# Altium integrated library Cypress PLD Delta39K.IntLib: 82 symbols (part 10 of 21)
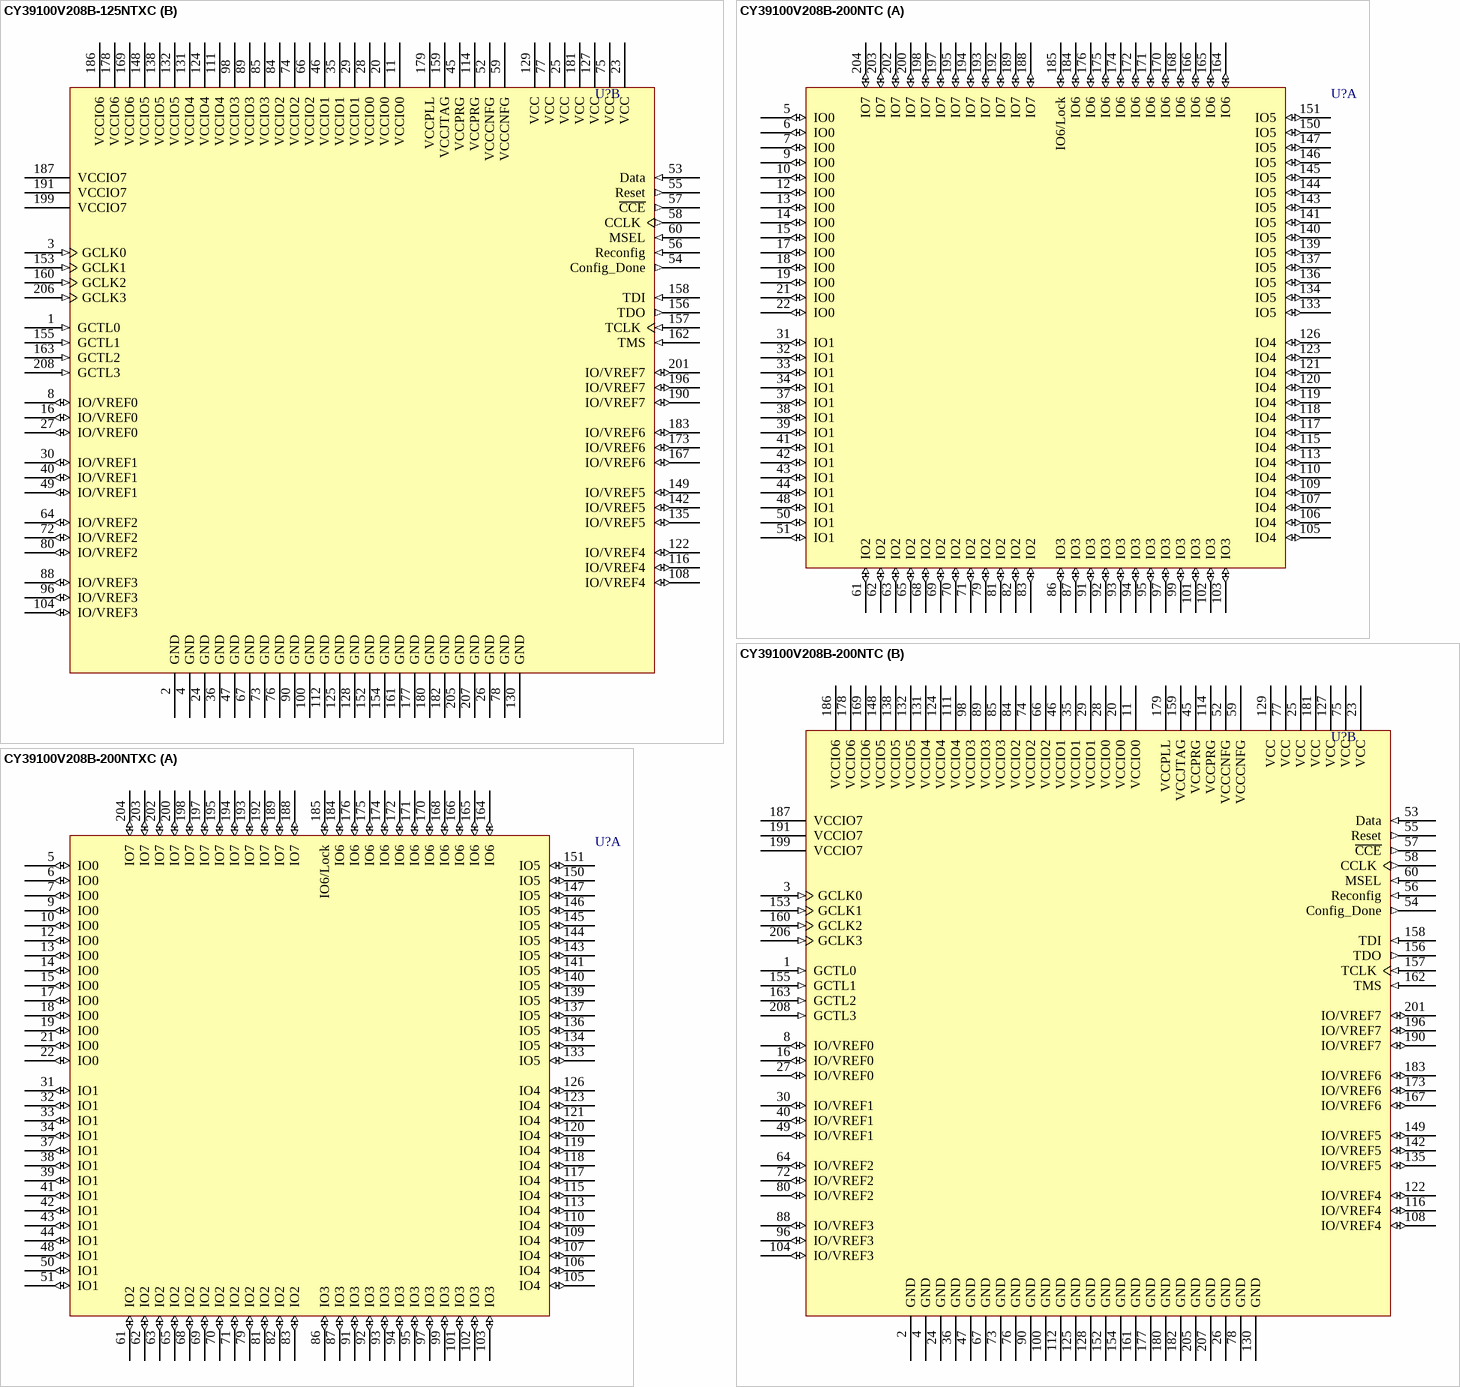
[diagram p87: symbols CY39100V208B-125NTXC to CY39100V208B-200NTXC]

## CY39100V208B-125NTXC
designator U?
Delta39K ISR CPLD, 3.3V/2.5V, 100K Gates, 125 MHz, 208-Lead EQFP, Commercial Grade, Pb-Free; Published: 6-Oct-2005; LatestRevisionDate: 13-Apr-2006; LatestRevisionNote: IPC-7351 Footprint Added.; DatasheetVersion: revI, Mar-2005; PackageVersion: Mar-2002; PackageReference: NT208; Publisher: Altium Limited; PackageDescription: 208-Pin Plastic Shrink Quad Flat Pack 0.5 mm Pitch; ComponentLink1Description: Manufacturer Link; ComponentLink1URL: http://www.cypress.com/; ComponentLink2Description: Datasheet; ComponentLink2URL: http://www.cypress.com/portal/server.pt/gateway/PTARGS_0_601270_1522_209_0_43/http%3B/sjapp20.mis.cypress.com%3B7001/publishedcontent/publish/design_resources/datasheets/contents/cy39030v_5.pdf
footprint NT208_N (Shrink QFP, 208-Leads, Body 28x28mm, Pitch 0.5mm, IPC Medium Density)
footprint NT208_L (Shrink QFP, 208-Leads, Body 28x28mm, Pitch 0.5mm, IPC High Density)
footprint NT208_M (Shrink QFP, 208-Leads, Body 28x28mm, Pitch 0.5mm, IPC Low Density)
3D model CY39100V208-NT208 (208-Pin Plastic Shrink Quad Flat Pack 0.5 mm Pitch)
part A pins: 5 IO0 (io) "IO for Bank 0", 6 IO0 (io) "IO for Bank 0", 7 IO0 (io) "IO for Bank 0", 9 IO0 (io) "IO for Bank 0", 10 IO0 (io) "IO for Bank 0", 12 IO0 (io) "IO for Bank 0", 13 IO0 (io) "IO for Bank 0", 14 IO0 (io) "IO for Bank 0", 15 IO0 (io) "IO for Bank 0", 17 IO0 (io) "IO for Bank 0", 18 IO0 (io) "IO for Bank 0", 19 IO0 (io) "IO for Bank 0", 21 IO0 (io) "IO for Bank 0", 22 IO0 (io) "IO for Bank 0", 31 IO1 (io) "IO for Bank 1", 32 IO1 (io) "IO for Bank 1", 33 IO1 (io) "IO for Bank 1", 34 IO1 (io) "IO for Bank 1", 37 IO1 (io) "IO for Bank 1", 38 IO1 (io) "IO for Bank 1", 39 IO1 (io) "IO for Bank 1", 41 IO1 (io) "IO for Bank 1", 42 IO1 (io) "IO for Bank 1", 43 IO1 (io) "IO for Bank 1", 44 IO1 (io) "IO for Bank 1", 48 IO1 (io) "IO for Bank 1", 50 IO1 (io) "IO for Bank 1", 51 IO1 (io) "IO for Bank 1", 61 IO2 (io) "IO for Bank 2", 62 IO2 (io) "IO for Bank 2", 63 IO2 (io) "IO for Bank 2", 65 IO2 (io) "IO for Bank 2", 68 IO2 (io) "IO for Bank 2", 69 IO2 (io) "IO for Bank 2", 70 IO2 (io) "IO for Bank 2", 71 IO2 (io) "IO for Bank 2", 79 IO2 (io) "IO for Bank 2", 81 IO2 (io) "IO for Bank 2", 82 IO2 (io) "IO for Bank 2", 83 IO2 (io) "IO for Bank 2", 86 IO3 (io) "IO for Bank 3", 87 IO3 (io) "IO for Bank 3", 91 IO3 (io) "IO for Bank 3", 92 IO3 (io) "IO for Bank 3", 93 IO3 (io) "IO for Bank 3", 94 IO3 (io) "IO for Bank 3", 95 IO3 (io) "IO for Bank 3", 97 IO3 (io) "IO for Bank 3", 99 IO3 (io) "IO for Bank 3", 101 IO3 (io) "IO for Bank 3", 102 IO3 (io) "IO for Bank 3", 103 IO3 (io) "IO for Bank 3", 105 IO4 (io) "IO for Bank 4", 106 IO4 (io) "IO for Bank 4", 107 IO4 (io) "IO for Bank 4", 109 IO4 (io) "IO for Bank 4", 110 IO4 (io) "IO for Bank 4", 113 IO4 (io) "IO for Bank 4", 115 IO4 (io) "IO for Bank 4", 117 IO4 (io) "IO for Bank 4", 118 IO4 (io) "IO for Bank 4", 119 IO4 (io) "IO for Bank 4", 120 IO4 (io) "IO for Bank 4", 121 IO4 (io) "IO for Bank 4", 123 IO4 (io) "IO for Bank 4", 126 IO4 (io) "IO for Bank 4", 133 IO5 (io) "IO for Bank 5", 134 IO5 (io) "IO for Bank 5", 136 IO5 (io) "IO for Bank 5", 137 IO5 (io) "IO for Bank 5", 139 IO5 (io) "IO for Bank 5", 140 IO5 (io) "IO for Bank 5", 141 IO5 (io) "IO for Bank 5", 143 IO5 (io) "IO for Bank 5", 144 IO5 (io) "IO for Bank 5", 145 IO5 (io) "IO for Bank 5", 146 IO5 (io) "IO for Bank 5", 147 IO5 (io) "IO for Bank 5", 150 IO5 (io) "IO for Bank 5", 151 IO5 (io) "IO for Bank 5", 164 IO6 (io) "IO for Bank 6", 165 IO6 (io) "IO for Bank 6", 166 IO6 (io) "IO for Bank 6", 168 IO6 (io) "IO for Bank 6", 170 IO6 (io) "IO for Bank 6", 171 IO6 (io) "IO for Bank 6", 172 IO6 (io) "IO for Bank 6", 174 IO6 (io) "IO for Bank 6", 175 IO6 (io) "IO for Bank 6", 176 IO6 (io) "IO for Bank 6", 184 IO6 (io) "IO for Bank 6", 185 IO6/Lock (io) "IO in Bank 6 or PLL lock output signal", 188 IO7 (io) "IO for Bank 7", 189 IO7 (io) "IO for Bank 7", 192 IO7 (io) "IO for Bank 7", 193 IO7 (io) "IO for Bank 7", 194 IO7 (io) "IO for Bank 7", 195 IO7 (io) "IO for Bank 7", 197 IO7 (io) "IO for Bank 7", 198 IO7 (io) "IO for Bank 7", 200 IO7 (io) "IO for Bank 7", 202 IO7 (io) "IO for Bank 7", 203 IO7 (io) "IO for Bank 7", 204 IO7 (io) "IO for Bank 7"
part B pins: 1 GCTL0 (in) "Global Control signal 0", 2 GND (power) "Ground", 3 GCLK0 (in) "Global Clock signal 0", 4 GND (power) "Ground", 8 IO/VREF0 (io) "IO or Reference Voltage for Bank 0", 11 VCCIO0 (power) "VCC for I/O bank 0", 16 IO/VREF0 (io) "IO or Reference Voltage for Bank 0", 20 VCCIO0 (power) "VCC for I/O bank 0", 23 VCC (power) "Operating Voltage", 24 GND (power) "Ground", 25 VCC (power) "Operating Voltage", 26 GND (power) "Ground", 27 IO/VREF0 (io) "IO or Reference Voltage for Bank 0", 28 VCCIO0 (power) "VCC for I/O bank 0", 29 VCCIO1 (power) "VCC for I/O bank 1", 30 IO/VREF1 (io) "IO or Reference Voltage for Bank 1", 35 VCCIO1 (power) "VCC for I/O bank 1", 36 GND (power) "Ground", 40 IO/VREF1 (io) "IO or Reference Voltage for Bank 1", 45 VCCPRG (power) "VCC for programming Self-Boot solution embedded boot PROM", 46 VCCIO1 (power) "VCC for I/O bank 1", 47 GND (power) "Ground", 49 IO/VREF1 (io) "IO or Reference Voltage for Bank 1", 52 VCCCNFG (power) "VCC for Configuration port", 53 Data (in) "Pin to receive configuration data from the external boot PROM", 54 Config_Done (out) "Flag indicating that configuration is complete", 55 Reset (out) "Reset signal to interface with the external boot PROM", 56 Reconfig (in) "Pin to start configuration of Delta39K", 57 ~{CCE} (out) "Chip select for the external boot PROM (active low)", 58 CCLK (out) "Configuration Clock for serial interface with the external boot PROM", 59 VCCCNFG (power) "VCC for Configuration port", 60 MSEL (in) "Mode Select Pin", 64 IO/VREF2 (io) "IO or Reference Voltage for Bank 2", 66 VCCIO2 (power) "VCC for I/O bank 2", 67 GND (power) "Ground", 72 IO/VREF2 (io) "IO or Reference Voltage for Bank 2", 73 GND (power) "Ground", 74 VCCIO2 (power) "VCC for I/O bank 2", 75 VCC (power) "Operating Voltage", 76 GND (power) "Ground", 77 VCC (power) "Operating Voltage", 78 GND (power) "Ground", 80 IO/VREF2 (io) "IO or Reference Voltage for Bank 2", 84 VCCIO2 (power) "VCC for I/O bank 2", 85 VCCIO3 (power) "VCC for I/O bank 3", 88 IO/VREF3 (io) "IO or Reference Voltage for Bank 3", 89 VCCIO3 (power) "VCC for I/O bank 3", 90 GND (power) "Ground", 96 IO/VREF3 (io) "IO or Reference Voltage for Bank 3", 98 VCCIO3 (power) "VCC for I/O bank 3", 100 GND (power) "Ground", 104 IO/VREF3 (io) "IO or Reference Voltage for Bank 3", 108 IO/VREF4 (io) "IO or Reference Voltage for Bank 4", 111 VCCIO4 (power) "VCC for I/O bank 4", 112 GND (power) "Ground", 114 VCCPRG (power) "VCC for programming Self-Boot solution embedded boot PROM", 116 IO/VREF4 (io) "IO or Reference Voltage for Bank 4", 122 IO/VREF4 (io) "IO or Reference Voltage for Bank 4", 124 VCCIO4 (power) "VCC for I/O bank 4", 125 GND (power) "Ground", 127 VCC (power) "Operating Voltage", 128 GND (power) "Ground", 129 VCC (power) "Operating Voltage", 130 GND (power) "Ground", 131 VCCIO4 (power) "VCC for I/O bank 4", 132 VCCIO5 (power) "VCC for I/O bank 5", 135 IO/VREF5 (io) "IO or Reference Voltage for Bank 5", 138 VCCIO5 (power) "VCC for I/O bank 5", 142 IO/VREF5 (io) "IO or Reference Voltage for Bank 5", 148 VCCIO5 (power) "VCC for I/O bank 5", 149 IO/VREF5 (io) "IO or Reference Voltage for Bank 5", 152 GND (power) "Ground", 153 GCLK1 (in) "Global Clock signal 1", 154 GND (power) "Ground", 155 GCTL1 (in) "Global Control signal 1", 156 TDO (out) "JTAG Test Data Out", 157 TCLK (in) "JTAG Test Clock", 158 TDI (in) "JTAG Test Data In", 159 VCCJTAG (power) "VCC for JTAG pins", 160 GCLK2 (in) "Global Clock signal 2", 161 GND (power) "Ground", 162 TMS (in) "JTAG Test Mode Select", 163 GCTL2 (in) "Global Control signal 2", 167 IO/VREF6 (io) "IO or Reference Voltage for Bank 6", 169 VCCIO6 (power) "VCC for I/O bank 6", 173 IO/VREF6 (io) "IO or Reference Voltage for Bank 6", 177 GND (power) "Ground", 178 VCCIO6 (power) "VCC for I/O bank 6", 179 VCCPLL (power) "VCC for PLL", 180 GND (power) "Ground", 181 VCC (power) "Operating Voltage", 182 GND (power) "Ground", 183 IO/VREF6 (io) "IO or Reference Voltage for Bank 6", 186 VCCIO6 (power) "VCC for I/O bank 6", 187 VCCIO7 (power) "VCC for I/O bank 7", 190 IO/VREF7 (io) "IO or Reference Voltage for Bank 7", 191 VCCIO7 (power) "VCC for I/O bank 7", 196 IO/VREF7 (io) "IO or Reference Voltage for Bank 7", 199 VCCIO7 (power) "VCC for I/O bank 7", 201 IO/VREF7 (io) "IO or Reference Voltage for Bank 7", 205 GND (power) "Ground", 206 GCLK3 (in) "Global Clock signal 3", 207 GND (power) "Ground", 208 GCTL3 (in) "Global Control signal 3"

## CY39100V208B-200NTC
designator U?
Delta39K ISR CPLD, 3.3V/2.5V, 100K Gates, 200 MHz, 208-Lead EQFP, Commercial Grade; Published: 6-Oct-2005; LatestRevisionDate: 13-Apr-2006; LatestRevisionNote: IPC-7351 Footprint Added.; DatasheetVersion: revI, Mar-2005; PackageVersion: Mar-2002; PackageReference: NT208; Publisher: Altium Limited; PackageDescription: 208-Pin Plastic Shrink Quad Flat Pack 0.5 mm Pitch; ComponentLink1Description: Manufacturer Link; ComponentLink1URL: http://www.cypress.com/; ComponentLink2Description: Datasheet; ComponentLink2URL: http://www.cypress.com/portal/server.pt/gateway/PTARGS_0_601270_1522_209_0_43/http%3B/sjapp20.mis.cypress.com%3B7001/publishedcontent/publish/design_resources/datasheets/contents/cy39030v_5.pdf
footprint NT208_N (Shrink QFP, 208-Leads, Body 28x28mm, Pitch 0.5mm, IPC Medium Density)
footprint NT208_L (Shrink QFP, 208-Leads, Body 28x28mm, Pitch 0.5mm, IPC High Density)
footprint NT208_M (Shrink QFP, 208-Leads, Body 28x28mm, Pitch 0.5mm, IPC Low Density)
3D model CY39100V208-NT208 (208-Pin Plastic Shrink Quad Flat Pack 0.5 mm Pitch)
part A pins: 5 IO0 (io) "IO for Bank 0", 6 IO0 (io) "IO for Bank 0", 7 IO0 (io) "IO for Bank 0", 9 IO0 (io) "IO for Bank 0", 10 IO0 (io) "IO for Bank 0", 12 IO0 (io) "IO for Bank 0", 13 IO0 (io) "IO for Bank 0", 14 IO0 (io) "IO for Bank 0", 15 IO0 (io) "IO for Bank 0", 17 IO0 (io) "IO for Bank 0", 18 IO0 (io) "IO for Bank 0", 19 IO0 (io) "IO for Bank 0", 21 IO0 (io) "IO for Bank 0", 22 IO0 (io) "IO for Bank 0", 31 IO1 (io) "IO for Bank 1", 32 IO1 (io) "IO for Bank 1", 33 IO1 (io) "IO for Bank 1", 34 IO1 (io) "IO for Bank 1", 37 IO1 (io) "IO for Bank 1", 38 IO1 (io) "IO for Bank 1", 39 IO1 (io) "IO for Bank 1", 41 IO1 (io) "IO for Bank 1", 42 IO1 (io) "IO for Bank 1", 43 IO1 (io) "IO for Bank 1", 44 IO1 (io) "IO for Bank 1", 48 IO1 (io) "IO for Bank 1", 50 IO1 (io) "IO for Bank 1", 51 IO1 (io) "IO for Bank 1", 61 IO2 (io) "IO for Bank 2", 62 IO2 (io) "IO for Bank 2", 63 IO2 (io) "IO for Bank 2", 65 IO2 (io) "IO for Bank 2", 68 IO2 (io) "IO for Bank 2", 69 IO2 (io) "IO for Bank 2", 70 IO2 (io) "IO for Bank 2", 71 IO2 (io) "IO for Bank 2", 79 IO2 (io) "IO for Bank 2", 81 IO2 (io) "IO for Bank 2", 82 IO2 (io) "IO for Bank 2", 83 IO2 (io) "IO for Bank 2", 86 IO3 (io) "IO for Bank 3", 87 IO3 (io) "IO for Bank 3", 91 IO3 (io) "IO for Bank 3", 92 IO3 (io) "IO for Bank 3", 93 IO3 (io) "IO for Bank 3", 94 IO3 (io) "IO for Bank 3", 95 IO3 (io) "IO for Bank 3", 97 IO3 (io) "IO for Bank 3", 99 IO3 (io) "IO for Bank 3", 101 IO3 (io) "IO for Bank 3", 102 IO3 (io) "IO for Bank 3", 103 IO3 (io) "IO for Bank 3", 105 IO4 (io) "IO for Bank 4", 106 IO4 (io) "IO for Bank 4", 107 IO4 (io) "IO for Bank 4", 109 IO4 (io) "IO for Bank 4", 110 IO4 (io) "IO for Bank 4", 113 IO4 (io) "IO for Bank 4", 115 IO4 (io) "IO for Bank 4", 117 IO4 (io) "IO for Bank 4", 118 IO4 (io) "IO for Bank 4", 119 IO4 (io) "IO for Bank 4", 120 IO4 (io) "IO for Bank 4", 121 IO4 (io) "IO for Bank 4", 123 IO4 (io) "IO for Bank 4", 126 IO4 (io) "IO for Bank 4", 133 IO5 (io) "IO for Bank 5", 134 IO5 (io) "IO for Bank 5", 136 IO5 (io) "IO for Bank 5", 137 IO5 (io) "IO for Bank 5", 139 IO5 (io) "IO for Bank 5", 140 IO5 (io) "IO for Bank 5", 141 IO5 (io) "IO for Bank 5", 143 IO5 (io) "IO for Bank 5", 144 IO5 (io) "IO for Bank 5", 145 IO5 (io) "IO for Bank 5", 146 IO5 (io) "IO for Bank 5", 147 IO5 (io) "IO for Bank 5", 150 IO5 (io) "IO for Bank 5", 151 IO5 (io) "IO for Bank 5", 164 IO6 (io) "IO for Bank 6", 165 IO6 (io) "IO for Bank 6", 166 IO6 (io) "IO for Bank 6", 168 IO6 (io) "IO for Bank 6", 170 IO6 (io) "IO for Bank 6", 171 IO6 (io) "IO for Bank 6", 172 IO6 (io) "IO for Bank 6", 174 IO6 (io) "IO for Bank 6", 175 IO6 (io) "IO for Bank 6", 176 IO6 (io) "IO for Bank 6", 184 IO6 (io) "IO for Bank 6", 185 IO6/Lock (io) "IO in Bank 6 or PLL lock output signal", 188 IO7 (io) "IO for Bank 7", 189 IO7 (io) "IO for Bank 7", 192 IO7 (io) "IO for Bank 7", 193 IO7 (io) "IO for Bank 7", 194 IO7 (io) "IO for Bank 7", 195 IO7 (io) "IO for Bank 7", 197 IO7 (io) "IO for Bank 7", 198 IO7 (io) "IO for Bank 7", 200 IO7 (io) "IO for Bank 7", 202 IO7 (io) "IO for Bank 7", 203 IO7 (io) "IO for Bank 7", 204 IO7 (io) "IO for Bank 7"
part B pins: 1 GCTL0 (in) "Global Control signal 0", 2 GND (power) "Ground", 3 GCLK0 (in) "Global Clock signal 0", 4 GND (power) "Ground", 8 IO/VREF0 (io) "IO or Reference Voltage for Bank 0", 11 VCCIO0 (power) "VCC for I/O bank 0", 16 IO/VREF0 (io) "IO or Reference Voltage for Bank 0", 20 VCCIO0 (power) "VCC for I/O bank 0", 23 VCC (power) "Operating Voltage", 24 GND (power) "Ground", 25 VCC (power) "Operating Voltage", 26 GND (power) "Ground", 27 IO/VREF0 (io) "IO or Reference Voltage for Bank 0", 28 VCCIO0 (power) "VCC for I/O bank 0", 29 VCCIO1 (power) "VCC for I/O bank 1", 30 IO/VREF1 (io) "IO or Reference Voltage for Bank 1", 35 VCCIO1 (power) "VCC for I/O bank 1", 36 GND (power) "Ground", 40 IO/VREF1 (io) "IO or Reference Voltage for Bank 1", 45 VCCPRG (power) "VCC for programming Self-Boot solution embedded boot PROM", 46 VCCIO1 (power) "VCC for I/O bank 1", 47 GND (power) "Ground", 49 IO/VREF1 (io) "IO or Reference Voltage for Bank 1", 52 VCCCNFG (power) "VCC for Configuration port", 53 Data (in) "Pin to receive configuration data from the external boot PROM", 54 Config_Done (out) "Flag indicating that configuration is complete", 55 Reset (out) "Reset signal to interface with the external boot PROM", 56 Reconfig (in) "Pin to start configuration of Delta39K", 57 ~{CCE} (out) "Chip select for the external boot PROM (active low)", 58 CCLK (out) "Configuration Clock for serial interface with the external boot PROM", 59 VCCCNFG (power) "VCC for Configuration port", 60 MSEL (in) "Mode Select Pin", 64 IO/VREF2 (io) "IO or Reference Voltage for Bank 2", 66 VCCIO2 (power) "VCC for I/O bank 2", 67 GND (power) "Ground", 72 IO/VREF2 (io) "IO or Reference Voltage for Bank 2", 73 GND (power) "Ground", 74 VCCIO2 (power) "VCC for I/O bank 2", 75 VCC (power) "Operating Voltage", 76 GND (power) "Ground", 77 VCC (power) "Operating Voltage", 78 GND (power) "Ground", 80 IO/VREF2 (io) "IO or Reference Voltage for Bank 2", 84 VCCIO2 (power) "VCC for I/O bank 2", 85 VCCIO3 (power) "VCC for I/O bank 3", 88 IO/VREF3 (io) "IO or Reference Voltage for Bank 3", 89 VCCIO3 (power) "VCC for I/O bank 3", 90 GND (power) "Ground", 96 IO/VREF3 (io) "IO or Reference Voltage for Bank 3", 98 VCCIO3 (power) "VCC for I/O bank 3", 100 GND (power) "Ground", 104 IO/VREF3 (io) "IO or Reference Voltage for Bank 3", 108 IO/VREF4 (io) "IO or Reference Voltage for Bank 4", 111 VCCIO4 (power) "VCC for I/O bank 4", 112 GND (power) "Ground", 114 VCCPRG (power) "VCC for programming Self-Boot solution embedded boot PROM", 116 IO/VREF4 (io) "IO or Reference Voltage for Bank 4", 122 IO/VREF4 (io) "IO or Reference Voltage for Bank 4", 124 VCCIO4 (power) "VCC for I/O bank 4", 125 GND (power) "Ground", 127 VCC (power) "Operating Voltage", 128 GND (power) "Ground", 129 VCC (power) "Operating Voltage", 130 GND (power) "Ground", 131 VCCIO4 (power) "VCC for I/O bank 4", 132 VCCIO5 (power) "VCC for I/O bank 5", 135 IO/VREF5 (io) "IO or Reference Voltage for Bank 5", 138 VCCIO5 (power) "VCC for I/O bank 5", 142 IO/VREF5 (io) "IO or Reference Voltage for Bank 5", 148 VCCIO5 (power) "VCC for I/O bank 5", 149 IO/VREF5 (io) "IO or Reference Voltage for Bank 5", 152 GND (power) "Ground", 153 GCLK1 (in) "Global Clock signal 1", 154 GND (power) "Ground", 155 GCTL1 (in) "Global Control signal 1", 156 TDO (out) "JTAG Test Data Out", 157 TCLK (in) "JTAG Test Clock", 158 TDI (in) "JTAG Test Data In", 159 VCCJTAG (power) "VCC for JTAG pins", 160 GCLK2 (in) "Global Clock signal 2", 161 GND (power) "Ground", 162 TMS (in) "JTAG Test Mode Select", 163 GCTL2 (in) "Global Control signal 2", 167 IO/VREF6 (io) "IO or Reference Voltage for Bank 6", 169 VCCIO6 (power) "VCC for I/O bank 6", 173 IO/VREF6 (io) "IO or Reference Voltage for Bank 6", 177 GND (power) "Ground", 178 VCCIO6 (power) "VCC for I/O bank 6", 179 VCCPLL (power) "VCC for PLL", 180 GND (power) "Ground", 181 VCC (power) "Operating Voltage", 182 GND (power) "Ground", 183 IO/VREF6 (io) "IO or Reference Voltage for Bank 6", 186 VCCIO6 (power) "VCC for I/O bank 6", 187 VCCIO7 (power) "VCC for I/O bank 7", 190 IO/VREF7 (io) "IO or Reference Voltage for Bank 7", 191 VCCIO7 (power) "VCC for I/O bank 7", 196 IO/VREF7 (io) "IO or Reference Voltage for Bank 7", 199 VCCIO7 (power) "VCC for I/O bank 7", 201 IO/VREF7 (io) "IO or Reference Voltage for Bank 7", 205 GND (power) "Ground", 206 GCLK3 (in) "Global Clock signal 3", 207 GND (power) "Ground", 208 GCTL3 (in) "Global Control signal 3"

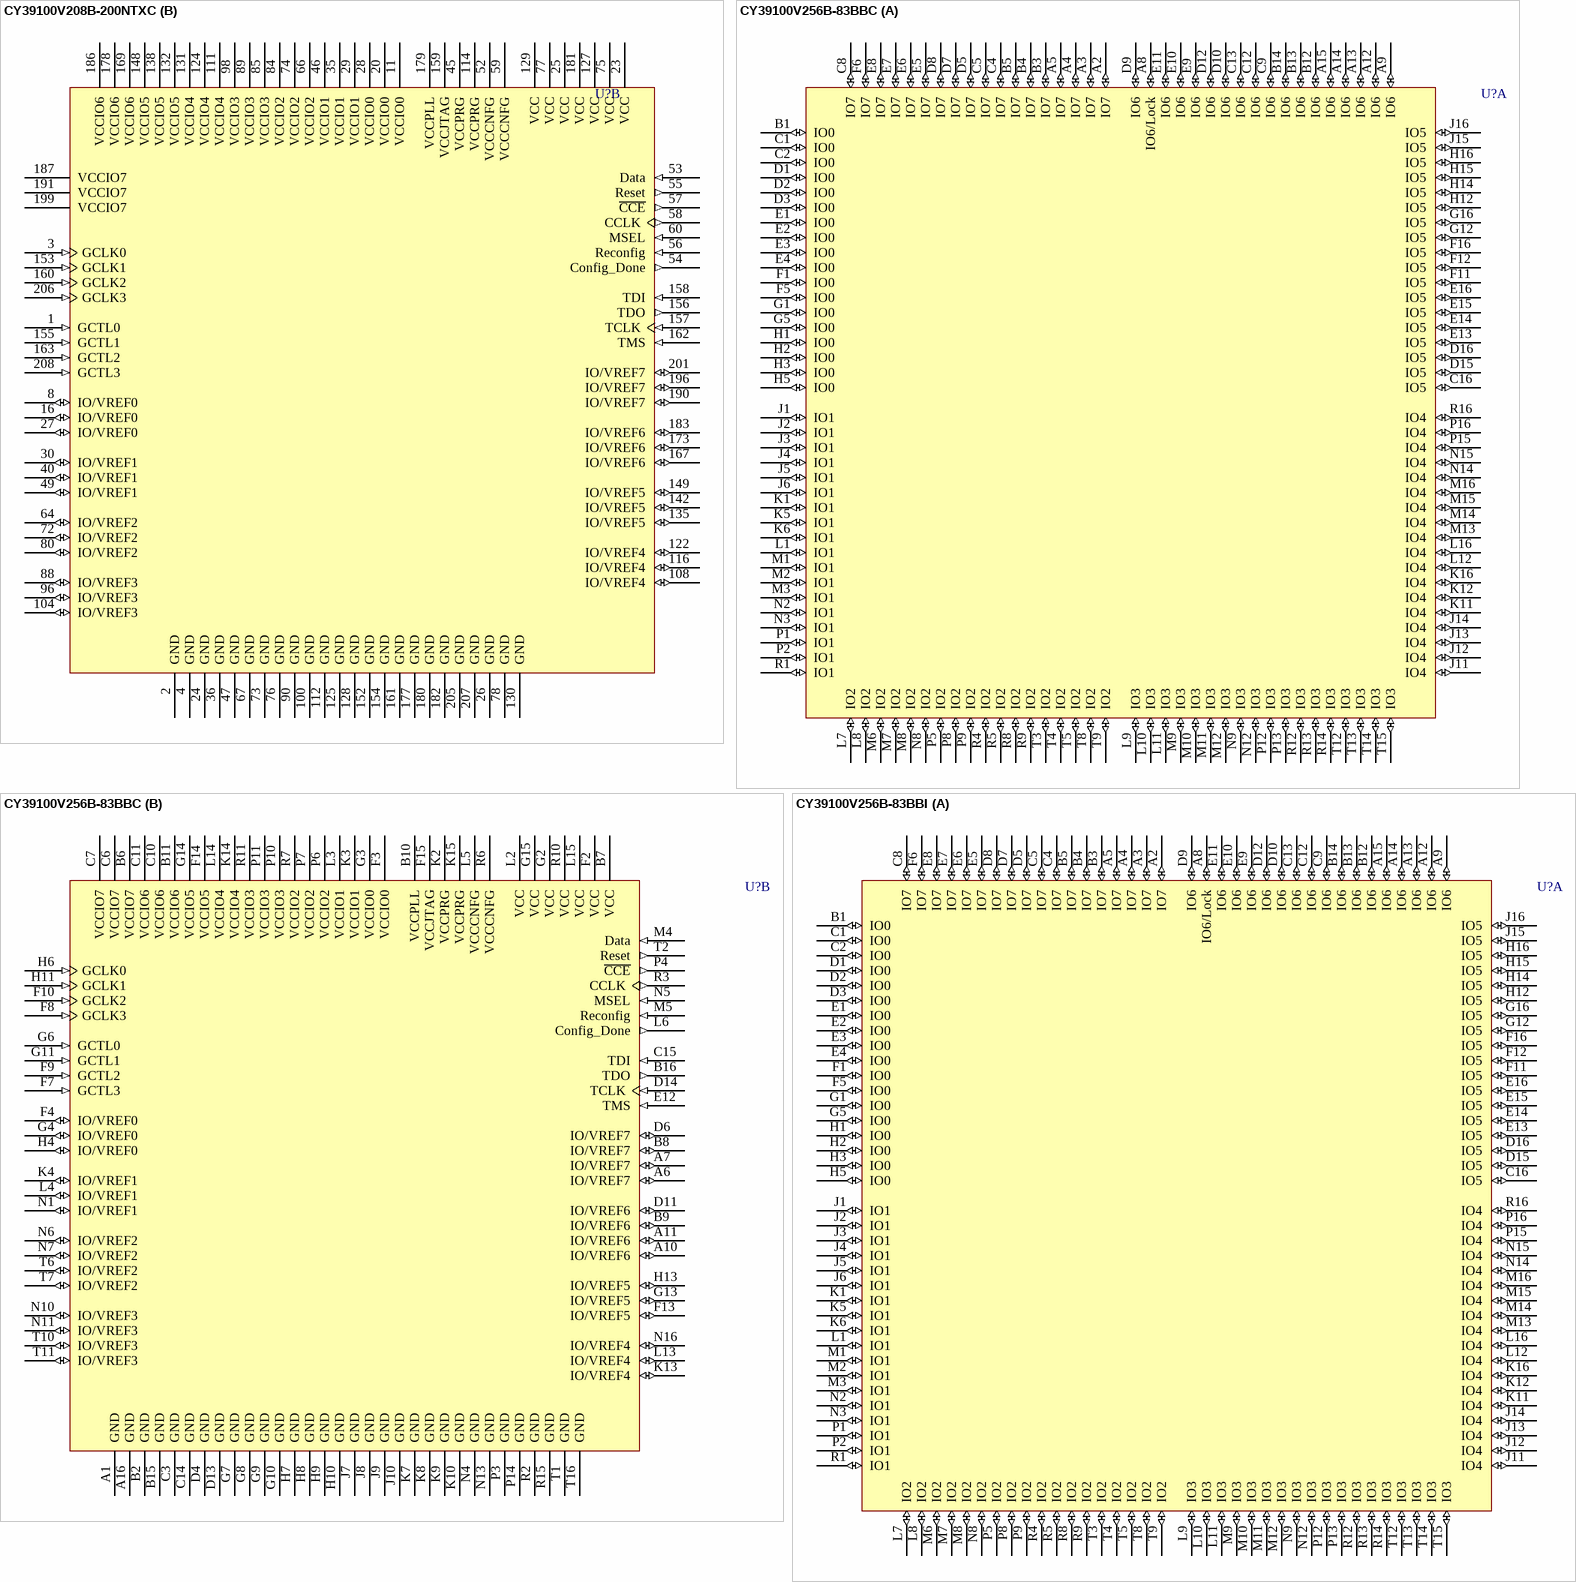
[diagram p29: symbols CY39100V208B-200NTXC to CY39100V256B-83BBI]

## CY39100V208B-200NTXC
designator U?
Delta39K ISR CPLD, 3.3V/2.5V, 100K Gates, 200 MHz, 208-Lead EQFP, Commercial Grade, Pb-Free; Published: 6-Oct-2005; LatestRevisionDate: 13-Apr-2006; LatestRevisionNote: IPC-7351 Footprint Added.; DatasheetVersion: revI, Mar-2005; PackageVersion: Mar-2002; PackageReference: NT208; Publisher: Altium Limited; PackageDescription: 208-Pin Plastic Shrink Quad Flat Pack 0.5 mm Pitch; ComponentLink1Description: Manufacturer Link; ComponentLink1URL: http://www.cypress.com/; ComponentLink2Description: Datasheet; ComponentLink2URL: http://www.cypress.com/portal/server.pt/gateway/PTARGS_0_601270_1522_209_0_43/http%3B/sjapp20.mis.cypress.com%3B7001/publishedcontent/publish/design_resources/datasheets/contents/cy39030v_5.pdf
footprint NT208_N (Shrink QFP, 208-Leads, Body 28x28mm, Pitch 0.5mm, IPC Medium Density)
footprint NT208_L (Shrink QFP, 208-Leads, Body 28x28mm, Pitch 0.5mm, IPC High Density)
footprint NT208_M (Shrink QFP, 208-Leads, Body 28x28mm, Pitch 0.5mm, IPC Low Density)
3D model CY39100V208-NT208 (208-Pin Plastic Shrink Quad Flat Pack 0.5 mm Pitch)
part A pins: 5 IO0 (io) "IO for Bank 0", 6 IO0 (io) "IO for Bank 0", 7 IO0 (io) "IO for Bank 0", 9 IO0 (io) "IO for Bank 0", 10 IO0 (io) "IO for Bank 0", 12 IO0 (io) "IO for Bank 0", 13 IO0 (io) "IO for Bank 0", 14 IO0 (io) "IO for Bank 0", 15 IO0 (io) "IO for Bank 0", 17 IO0 (io) "IO for Bank 0", 18 IO0 (io) "IO for Bank 0", 19 IO0 (io) "IO for Bank 0", 21 IO0 (io) "IO for Bank 0", 22 IO0 (io) "IO for Bank 0", 31 IO1 (io) "IO for Bank 1", 32 IO1 (io) "IO for Bank 1", 33 IO1 (io) "IO for Bank 1", 34 IO1 (io) "IO for Bank 1", 37 IO1 (io) "IO for Bank 1", 38 IO1 (io) "IO for Bank 1", 39 IO1 (io) "IO for Bank 1", 41 IO1 (io) "IO for Bank 1", 42 IO1 (io) "IO for Bank 1", 43 IO1 (io) "IO for Bank 1", 44 IO1 (io) "IO for Bank 1", 48 IO1 (io) "IO for Bank 1", 50 IO1 (io) "IO for Bank 1", 51 IO1 (io) "IO for Bank 1", 61 IO2 (io) "IO for Bank 2", 62 IO2 (io) "IO for Bank 2", 63 IO2 (io) "IO for Bank 2", 65 IO2 (io) "IO for Bank 2", 68 IO2 (io) "IO for Bank 2", 69 IO2 (io) "IO for Bank 2", 70 IO2 (io) "IO for Bank 2", 71 IO2 (io) "IO for Bank 2", 79 IO2 (io) "IO for Bank 2", 81 IO2 (io) "IO for Bank 2", 82 IO2 (io) "IO for Bank 2", 83 IO2 (io) "IO for Bank 2", 86 IO3 (io) "IO for Bank 3", 87 IO3 (io) "IO for Bank 3", 91 IO3 (io) "IO for Bank 3", 92 IO3 (io) "IO for Bank 3", 93 IO3 (io) "IO for Bank 3", 94 IO3 (io) "IO for Bank 3", 95 IO3 (io) "IO for Bank 3", 97 IO3 (io) "IO for Bank 3", 99 IO3 (io) "IO for Bank 3", 101 IO3 (io) "IO for Bank 3", 102 IO3 (io) "IO for Bank 3", 103 IO3 (io) "IO for Bank 3", 105 IO4 (io) "IO for Bank 4", 106 IO4 (io) "IO for Bank 4", 107 IO4 (io) "IO for Bank 4", 109 IO4 (io) "IO for Bank 4", 110 IO4 (io) "IO for Bank 4", 113 IO4 (io) "IO for Bank 4", 115 IO4 (io) "IO for Bank 4", 117 IO4 (io) "IO for Bank 4", 118 IO4 (io) "IO for Bank 4", 119 IO4 (io) "IO for Bank 4", 120 IO4 (io) "IO for Bank 4", 121 IO4 (io) "IO for Bank 4", 123 IO4 (io) "IO for Bank 4", 126 IO4 (io) "IO for Bank 4", 133 IO5 (io) "IO for Bank 5", 134 IO5 (io) "IO for Bank 5", 136 IO5 (io) "IO for Bank 5", 137 IO5 (io) "IO for Bank 5", 139 IO5 (io) "IO for Bank 5", 140 IO5 (io) "IO for Bank 5", 141 IO5 (io) "IO for Bank 5", 143 IO5 (io) "IO for Bank 5", 144 IO5 (io) "IO for Bank 5", 145 IO5 (io) "IO for Bank 5", 146 IO5 (io) "IO for Bank 5", 147 IO5 (io) "IO for Bank 5", 150 IO5 (io) "IO for Bank 5", 151 IO5 (io) "IO for Bank 5", 164 IO6 (io) "IO for Bank 6", 165 IO6 (io) "IO for Bank 6", 166 IO6 (io) "IO for Bank 6", 168 IO6 (io) "IO for Bank 6", 170 IO6 (io) "IO for Bank 6", 171 IO6 (io) "IO for Bank 6", 172 IO6 (io) "IO for Bank 6", 174 IO6 (io) "IO for Bank 6", 175 IO6 (io) "IO for Bank 6", 176 IO6 (io) "IO for Bank 6", 184 IO6 (io) "IO for Bank 6", 185 IO6/Lock (io) "IO in Bank 6 or PLL lock output signal", 188 IO7 (io) "IO for Bank 7", 189 IO7 (io) "IO for Bank 7", 192 IO7 (io) "IO for Bank 7", 193 IO7 (io) "IO for Bank 7", 194 IO7 (io) "IO for Bank 7", 195 IO7 (io) "IO for Bank 7", 197 IO7 (io) "IO for Bank 7", 198 IO7 (io) "IO for Bank 7", 200 IO7 (io) "IO for Bank 7", 202 IO7 (io) "IO for Bank 7", 203 IO7 (io) "IO for Bank 7", 204 IO7 (io) "IO for Bank 7"
part B pins: 1 GCTL0 (in) "Global Control signal 0", 2 GND (power) "Ground", 3 GCLK0 (in) "Global Clock signal 0", 4 GND (power) "Ground", 8 IO/VREF0 (io) "IO or Reference Voltage for Bank 0", 11 VCCIO0 (power) "VCC for I/O bank 0", 16 IO/VREF0 (io) "IO or Reference Voltage for Bank 0", 20 VCCIO0 (power) "VCC for I/O bank 0", 23 VCC (power) "Operating Voltage", 24 GND (power) "Ground", 25 VCC (power) "Operating Voltage", 26 GND (power) "Ground", 27 IO/VREF0 (io) "IO or Reference Voltage for Bank 0", 28 VCCIO0 (power) "VCC for I/O bank 0", 29 VCCIO1 (power) "VCC for I/O bank 1", 30 IO/VREF1 (io) "IO or Reference Voltage for Bank 1", 35 VCCIO1 (power) "VCC for I/O bank 1", 36 GND (power) "Ground", 40 IO/VREF1 (io) "IO or Reference Voltage for Bank 1", 45 VCCPRG (power) "VCC for programming Self-Boot solution embedded boot PROM", 46 VCCIO1 (power) "VCC for I/O bank 1", 47 GND (power) "Ground", 49 IO/VREF1 (io) "IO or Reference Voltage for Bank 1", 52 VCCCNFG (power) "VCC for Configuration port", 53 Data (in) "Pin to receive configuration data from the external boot PROM", 54 Config_Done (out) "Flag indicating that configuration is complete", 55 Reset (out) "Reset signal to interface with the external boot PROM", 56 Reconfig (in) "Pin to start configuration of Delta39K", 57 ~{CCE} (out) "Chip select for the external boot PROM (active low)", 58 CCLK (out) "Configuration Clock for serial interface with the external boot PROM", 59 VCCCNFG (power) "VCC for Configuration port", 60 MSEL (in) "Mode Select Pin", 64 IO/VREF2 (io) "IO or Reference Voltage for Bank 2", 66 VCCIO2 (power) "VCC for I/O bank 2", 67 GND (power) "Ground", 72 IO/VREF2 (io) "IO or Reference Voltage for Bank 2", 73 GND (power) "Ground", 74 VCCIO2 (power) "VCC for I/O bank 2", 75 VCC (power) "Operating Voltage", 76 GND (power) "Ground", 77 VCC (power) "Operating Voltage", 78 GND (power) "Ground", 80 IO/VREF2 (io) "IO or Reference Voltage for Bank 2", 84 VCCIO2 (power) "VCC for I/O bank 2", 85 VCCIO3 (power) "VCC for I/O bank 3", 88 IO/VREF3 (io) "IO or Reference Voltage for Bank 3", 89 VCCIO3 (power) "VCC for I/O bank 3", 90 GND (power) "Ground", 96 IO/VREF3 (io) "IO or Reference Voltage for Bank 3", 98 VCCIO3 (power) "VCC for I/O bank 3", 100 GND (power) "Ground", 104 IO/VREF3 (io) "IO or Reference Voltage for Bank 3", 108 IO/VREF4 (io) "IO or Reference Voltage for Bank 4", 111 VCCIO4 (power) "VCC for I/O bank 4", 112 GND (power) "Ground", 114 VCCPRG (power) "VCC for programming Self-Boot solution embedded boot PROM", 116 IO/VREF4 (io) "IO or Reference Voltage for Bank 4", 122 IO/VREF4 (io) "IO or Reference Voltage for Bank 4", 124 VCCIO4 (power) "VCC for I/O bank 4", 125 GND (power) "Ground", 127 VCC (power) "Operating Voltage", 128 GND (power) "Ground", 129 VCC (power) "Operating Voltage", 130 GND (power) "Ground", 131 VCCIO4 (power) "VCC for I/O bank 4", 132 VCCIO5 (power) "VCC for I/O bank 5", 135 IO/VREF5 (io) "IO or Reference Voltage for Bank 5", 138 VCCIO5 (power) "VCC for I/O bank 5", 142 IO/VREF5 (io) "IO or Reference Voltage for Bank 5", 148 VCCIO5 (power) "VCC for I/O bank 5", 149 IO/VREF5 (io) "IO or Reference Voltage for Bank 5", 152 GND (power) "Ground", 153 GCLK1 (in) "Global Clock signal 1", 154 GND (power) "Ground", 155 GCTL1 (in) "Global Control signal 1", 156 TDO (out) "JTAG Test Data Out", 157 TCLK (in) "JTAG Test Clock", 158 TDI (in) "JTAG Test Data In", 159 VCCJTAG (power) "VCC for JTAG pins", 160 GCLK2 (in) "Global Clock signal 2", 161 GND (power) "Ground", 162 TMS (in) "JTAG Test Mode Select", 163 GCTL2 (in) "Global Control signal 2", 167 IO/VREF6 (io) "IO or Reference Voltage for Bank 6", 169 VCCIO6 (power) "VCC for I/O bank 6", 173 IO/VREF6 (io) "IO or Reference Voltage for Bank 6", 177 GND (power) "Ground", 178 VCCIO6 (power) "VCC for I/O bank 6", 179 VCCPLL (power) "VCC for PLL", 180 GND (power) "Ground", 181 VCC (power) "Operating Voltage", 182 GND (power) "Ground", 183 IO/VREF6 (io) "IO or Reference Voltage for Bank 6", 186 VCCIO6 (power) "VCC for I/O bank 6", 187 VCCIO7 (power) "VCC for I/O bank 7", 190 IO/VREF7 (io) "IO or Reference Voltage for Bank 7", 191 VCCIO7 (power) "VCC for I/O bank 7", 196 IO/VREF7 (io) "IO or Reference Voltage for Bank 7", 199 VCCIO7 (power) "VCC for I/O bank 7", 201 IO/VREF7 (io) "IO or Reference Voltage for Bank 7", 205 GND (power) "Ground", 206 GCLK3 (in) "Global Clock signal 3", 207 GND (power) "Ground", 208 GCTL3 (in) "Global Control signal 3"

## CY39100V256B-83BBC
designator U?
Delta39K ISR CPLD, 3.3V/2.5V, 100K Gates, 83 MHz, 256-Ball FBGA, Commercial Grade; Published: 6-Oct-2005; LatestRevisionDate: 13-Apr-2006; LatestRevisionNote: IPC-7351 Footprint Added.; DatasheetVersion: revI, Mar-2005; PackageVersion: revF, Oct-2003; PackageReference: BB256; Publisher: Altium Limited; PackageDescription: 256-Ball Fine Pitch Ball Grid Array 1 mm Pitch (37K & 39K CPLD Devices); Code_JEDEC: MO-192; ComponentLink1Description: Manufacturer Link; ComponentLink1URL: http://www.cypress.com/; ComponentLink2Description: Datasheet; ComponentLink2URL: http://www.cypress.com/portal/server.pt/gateway/PTARGS_0_601270_1522_209_0_43/http%3B/sjapp20.mis.cypress.com%3B7001/publishedcontent/publish/design_resources/datasheets/contents/cy39030v_5.pdf
footprint BB256 (BGA, 256-Leads, Body 17x17mm, Pitch 1mm)
3D model CY39100V256-BB256 (256-Ball Fine Pitch Ball Grid Array 1 mm Pitch (37K & 39K CPLD Devices))
part A pins: A2 IO7 (io), A3 IO7 (io), A4 IO7 (io), A5 IO7 (io), A8 IO6/Lock (io), A9 IO6 (io), A12 IO6 (io), A13 IO6 (io), A14 IO6 (io), A15 IO6 (io), B1 IO0 (io), B3 IO7 (io), B4 IO7 (io), B5 IO7 (io), B12 IO6 (io), B13 IO6 (io), B14 IO6 (io), C1 IO0 (io), C2 IO0 (io), C4 IO7 (io), C5 IO7 (io), C8 IO7 (io), C9 IO6 (io), C12 IO6 (io), C13 IO6 (io), C16 IO5 (io), D1 IO0 (io), D2 IO0 (io), D3 IO0 (io), D5 IO7 (io), D7 IO7 (io), D8 IO7 (io), D9 IO6 (io), D10 IO6 (io), D12 IO6 (io), D15 IO5 (io), D16 IO5 (io), E1 IO0 (io), E2 IO0 (io), E3 IO0 (io), E4 IO0 (io), E5 IO7 (io), E6 IO7 (io), E7 IO7 (io), E8 IO7 (io), E9 IO6 (io), E10 IO6 (io), E11 IO6 (io), E13 IO5 (io), E14 IO5 (io), E15 IO5 (io), E16 IO5 (io), F1 IO0 (io), F5 IO0 (io), F6 IO7 (io), F11 IO5 (io), F12 IO5 (io), F16 IO5 (io), G1 IO0 (io), G5 IO0 (io), G12 IO5 (io), G16 IO5 (io), H1 IO0 (io), H2 IO0 (io), H3 IO0 (io), H5 IO0 (io), H12 IO5 (io), H14 IO5 (io), H15 IO5 (io), H16 IO5 (io), J1 IO1 (io), J2 IO1 (io), J3 IO1 (io), J4 IO1 (io), J5 IO1 (io), J6 IO1 (io), J11 IO4 (io), J12 IO4 (io), J13 IO4 (io), J14 IO4 (io), J15 IO5 (io), J16 IO5 (io), K1 IO1 (io), K5 IO1 (io), K6 IO1 (io), K11 IO4 (io), K12 IO4 (io), K16 IO4 (io), L1 IO1 (io), L7 IO2 (io), L8 IO2 (io), L9 IO3 (io), L10 IO3 (io), L11 IO3 (io), L12 IO4 (io), L16 IO4 (io), M1 IO1 (io), M2 IO1 (io), M3 IO1 (io), M6 IO2 (io), M7 IO2 (io), M8 IO2 (io), M9 IO3 (io), M10 IO3 (io), M11 IO3 (io), M12 IO3 (io), M13 IO4 (io), M14 IO4 (io), M15 IO4 (io), M16 IO4 (io), N2 IO1 (io), N3 IO1 (io), N8 IO2 (io), N9 IO3 (io), N12 IO3 (io), N14 IO4 (io), N15 IO4 (io), P1 IO1 (io), P2 IO1 (io), P5 IO2 (io), P8 IO2 (io), P9 IO2 (io), P12 IO3 (io), P13 IO3 (io), P15 IO4 (io), P16 IO4 (io), R1 IO1 (io), R4 IO2 (io), R5 IO2 (io), R8 IO2 (io), R9 IO2 (io), R12 IO3 (io), R13 IO3 (io), R14 IO3 (io), R16 IO4 (io), T3 IO2 (io), T4 IO2 (io), T5 IO2 (io), T8 IO2 (io), T9 IO2 (io), T12 IO3 (io), T13 IO3 (io), T14 IO3 (io), T15 IO3 (io)
part B pins: A1 GND (power), A6 IO/VREF7 (io), A7 IO/VREF7 (io), A10 IO/VREF6 (io), A11 IO/VREF6 (io), A16 GND (power), B2 GND (power), B6 VCCIO7 (power), B7 VCC (power), B8 IO/VREF7 (io), B9 IO/VREF6 (io), B10 VCCPLL (power), B11 VCCIO6 (power), B15 GND (power), B16 TDO (out), C3 GND (power), C6 VCCIO7 (power), C7 VCCIO7 (power), C10 VCCIO6 (power), C11 VCCIO6 (power), C14 GND (power), C15 TDI (in), D4 GND (power), D6 IO/VREF7 (io), D11 IO/VREF6 (io), D13 GND (power), D14 TCLK (in), E12 TMS (in), F2 VCC (power), F3 VCCIO0 (power), F4 IO/VREF0 (io), F7 GCTL3 (in), F8 GCLK3 (in), F9 GCTL2 (in), F10 GCLK2 (in), F13 IO/VREF5 (io), F14 VCCIO5 (power), F15 VCCJTAG (power), G2 VCC (power), G3 VCCIO0 (power), G4 IO/VREF0 (io), G6 GCTL0 (in), G7 GND (power), G8 GND (power), G9 GND (power), G10 GND (power), G11 GCTL1 (in), G13 IO/VREF5 (io), G14 VCCIO5 (power), G15 VCC (power), H4 IO/VREF0 (io), H6 GCLK0 (in), H7 GND (power), H8 GND (power), H9 GND (power), H10 GND (power), H11 GCLK1 (in), H13 IO/VREF5 (io), J7 GND (power), J8 GND (power), J9 GND (power), J10 GND (power), K2 VCCPRG (power), K3 VCCIO1 (power), K4 IO/VREF1 (io), K7 GND (power), K8 GND (power), K9 GND (power), K10 GND (power), K13 IO/VREF4 (io), K14 VCCIO4 (power), K15 VCCPRG (power), L2 VCC (power), L3 VCCIO1 (power), L4 IO/VREF1 (io), L5 VCCCNFG (power), L6 Config_Done (out), L13 IO/VREF4 (io), L14 VCCIO4 (power), L15 VCC (power), M4 Data (in), M5 Reconfig (in), N1 IO/VREF1 (io), N4 GND (power), N5 MSEL (in), N6 IO/VREF2 (io), N7 IO/VREF2 (io), N10 IO/VREF3 (io), N11 IO/VREF3 (io), N13 GND (power), N16 IO/VREF4 (io), P3 GND (power), P4 ~{CCE} (out), P6 VCCIO2 (power), P7 VCCIO2 (power), P10 VCCIO3 (power), P11 VCCIO3 (power), P14 GND (power), R2 GND (power), R3 CCLK (out), R6 VCCCNFG (power), R7 VCCIO2 (power), R10 VCC (power), R11 VCCIO3 (power), R15 GND (power), T1 GND (power), T2 Reset (out), T6 IO/VREF2 (io), T7 IO/VREF2 (io), T10 IO/VREF3 (io), T11 IO/VREF3 (io), T16 GND (power)

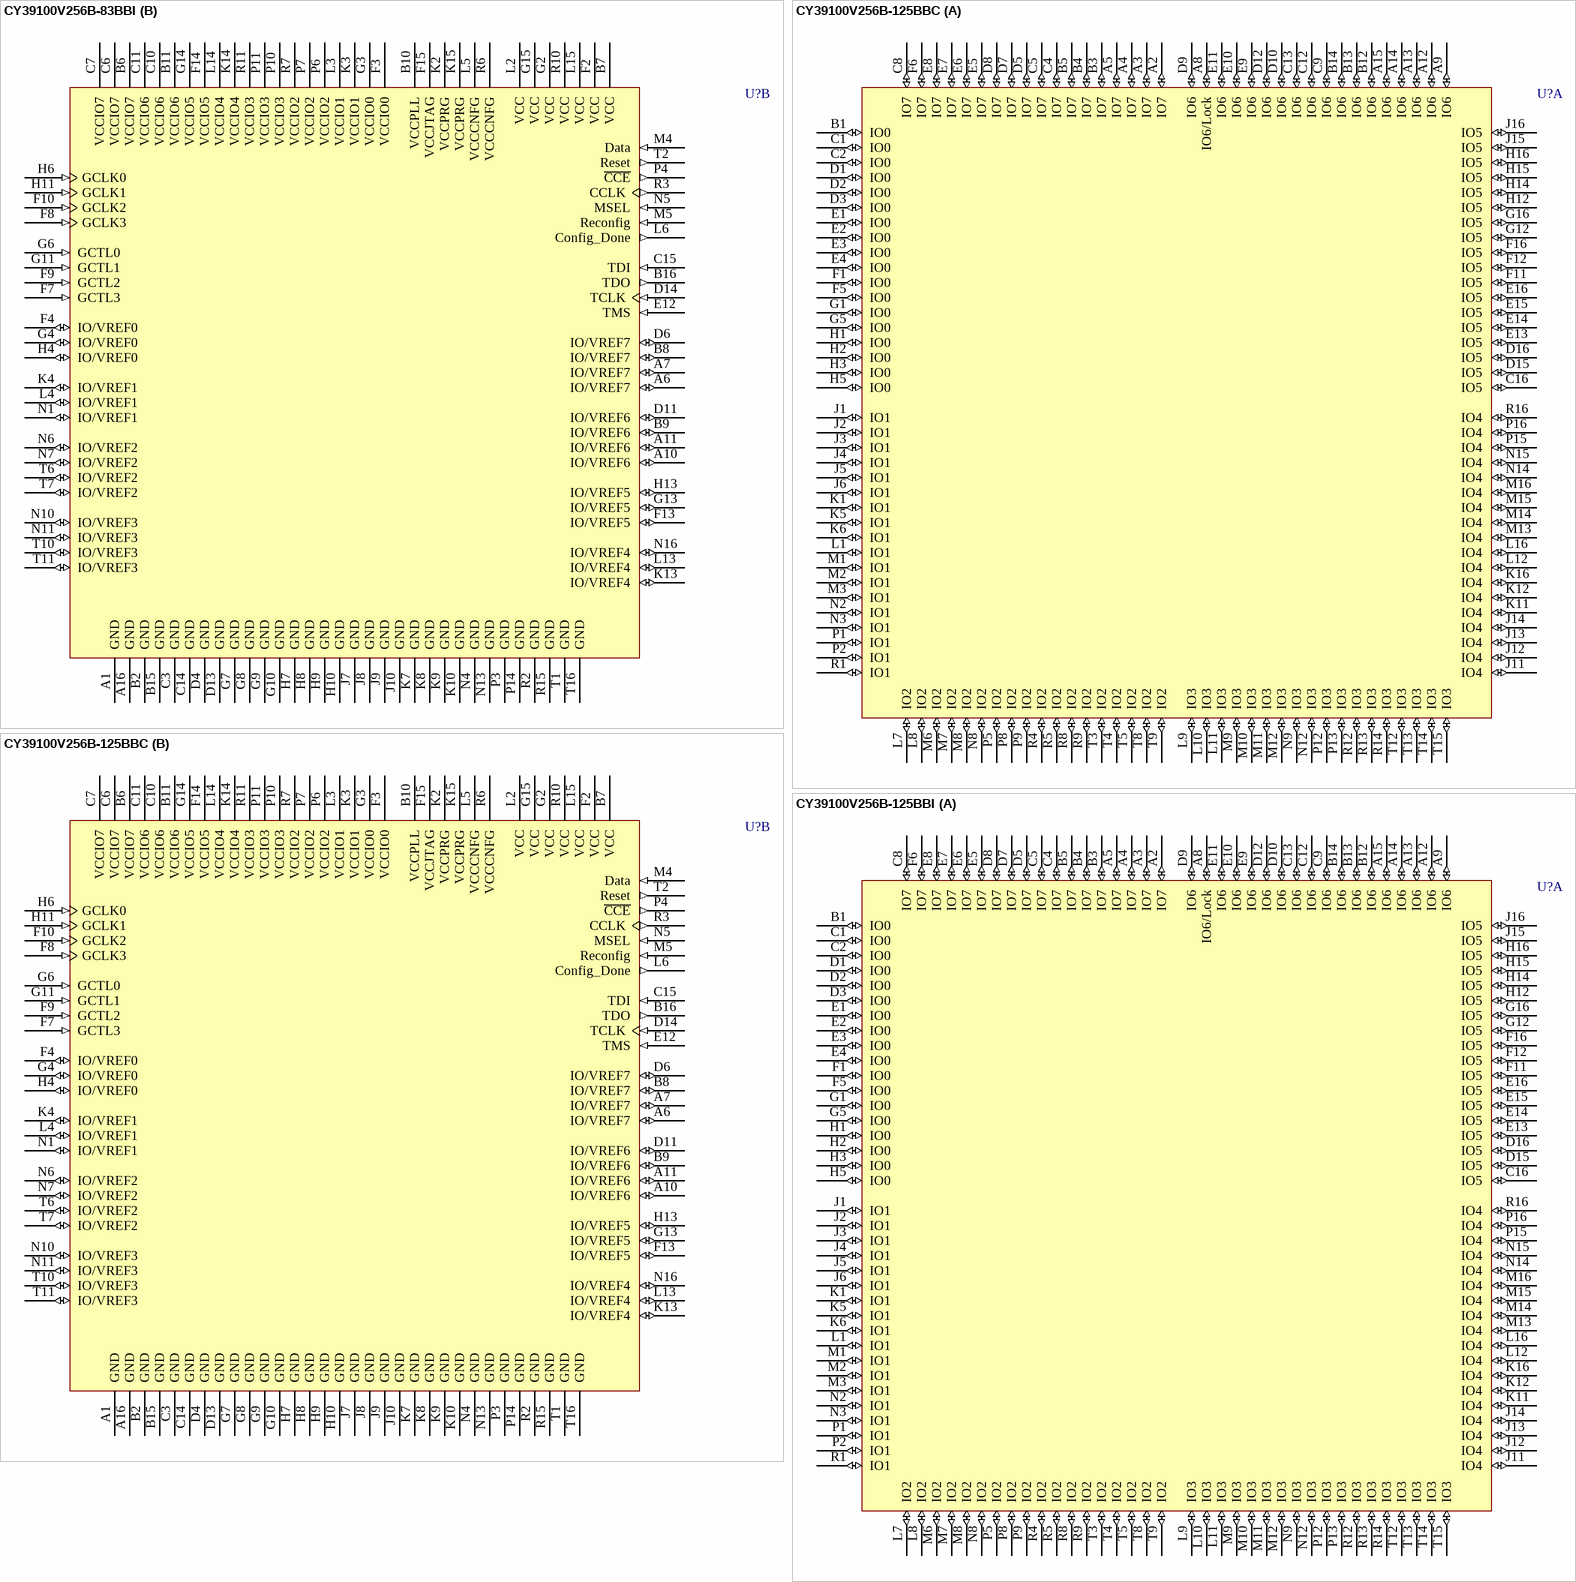
[diagram p30: symbols CY39100V256B-83BBI to CY39100V256B-125BBI]

## CY39100V256B-83BBI
designator U?
Delta39K ISR CPLD, 3.3V/2.5V, 100K Gates, 83 MHz, 256-Ball FBGA, Industrial Grade; ComponentAvailability: Obsolete; Published: 11-Dec-2002; LatestRevisionDate: 13-Apr-2006; LatestRevisionNote: IPC-7351 Footprint Added.; DatasheetVersion: revI, Mar-2005; PackageVersion: revF, Oct-2003; PackageReference: BB256; Publisher: Altium Limited; PackageDescription: 256-Ball Fine Pitch Ball Grid Array 1 mm Pitch (37K & 39K CPLD Devices); Code_JEDEC: MO-192; ComponentLink1Description: Manufacturer Link; ComponentLink1URL: http://www.cypress.com/; ComponentLink2Description: Datasheet; ComponentLink2URL: http://www.cypress.com/portal/server.pt/gateway/PTARGS_0_601270_1522_209_0_43/http%3B/sjapp20.mis.cypress.com%3B7001/publishedcontent/publish/design_resources/datasheets/contents/cy39030v_5.pdf
footprint BB256 (BGA, 256-Leads, Body 17x17mm, Pitch 1mm)
3D model CY39100V256-BB256 (256-Ball Fine Pitch Ball Grid Array 1 mm Pitch (37K & 39K CPLD Devices))
part A pins: A2 IO7 (io), A3 IO7 (io), A4 IO7 (io), A5 IO7 (io), A8 IO6/Lock (io), A9 IO6 (io), A12 IO6 (io), A13 IO6 (io), A14 IO6 (io), A15 IO6 (io), B1 IO0 (io), B3 IO7 (io), B4 IO7 (io), B5 IO7 (io), B12 IO6 (io), B13 IO6 (io), B14 IO6 (io), C1 IO0 (io), C2 IO0 (io), C4 IO7 (io), C5 IO7 (io), C8 IO7 (io), C9 IO6 (io), C12 IO6 (io), C13 IO6 (io), C16 IO5 (io), D1 IO0 (io), D2 IO0 (io), D3 IO0 (io), D5 IO7 (io), D7 IO7 (io), D8 IO7 (io), D9 IO6 (io), D10 IO6 (io), D12 IO6 (io), D15 IO5 (io), D16 IO5 (io), E1 IO0 (io), E2 IO0 (io), E3 IO0 (io), E4 IO0 (io), E5 IO7 (io), E6 IO7 (io), E7 IO7 (io), E8 IO7 (io), E9 IO6 (io), E10 IO6 (io), E11 IO6 (io), E13 IO5 (io), E14 IO5 (io), E15 IO5 (io), E16 IO5 (io), F1 IO0 (io), F5 IO0 (io), F6 IO7 (io), F11 IO5 (io), F12 IO5 (io), F16 IO5 (io), G1 IO0 (io), G5 IO0 (io), G12 IO5 (io), G16 IO5 (io), H1 IO0 (io), H2 IO0 (io), H3 IO0 (io), H5 IO0 (io), H12 IO5 (io), H14 IO5 (io), H15 IO5 (io), H16 IO5 (io), J1 IO1 (io), J2 IO1 (io), J3 IO1 (io), J4 IO1 (io), J5 IO1 (io), J6 IO1 (io), J11 IO4 (io), J12 IO4 (io), J13 IO4 (io), J14 IO4 (io), J15 IO5 (io), J16 IO5 (io), K1 IO1 (io), K5 IO1 (io), K6 IO1 (io), K11 IO4 (io), K12 IO4 (io), K16 IO4 (io), L1 IO1 (io), L7 IO2 (io), L8 IO2 (io), L9 IO3 (io), L10 IO3 (io), L11 IO3 (io), L12 IO4 (io), L16 IO4 (io), M1 IO1 (io), M2 IO1 (io), M3 IO1 (io), M6 IO2 (io), M7 IO2 (io), M8 IO2 (io), M9 IO3 (io), M10 IO3 (io), M11 IO3 (io), M12 IO3 (io), M13 IO4 (io), M14 IO4 (io), M15 IO4 (io), M16 IO4 (io), N2 IO1 (io), N3 IO1 (io), N8 IO2 (io), N9 IO3 (io), N12 IO3 (io), N14 IO4 (io), N15 IO4 (io), P1 IO1 (io), P2 IO1 (io), P5 IO2 (io), P8 IO2 (io), P9 IO2 (io), P12 IO3 (io), P13 IO3 (io), P15 IO4 (io), P16 IO4 (io), R1 IO1 (io), R4 IO2 (io), R5 IO2 (io), R8 IO2 (io), R9 IO2 (io), R12 IO3 (io), R13 IO3 (io), R14 IO3 (io), R16 IO4 (io), T3 IO2 (io), T4 IO2 (io), T5 IO2 (io), T8 IO2 (io), T9 IO2 (io), T12 IO3 (io), T13 IO3 (io), T14 IO3 (io), T15 IO3 (io)
part B pins: A1 GND (power), A6 IO/VREF7 (io), A7 IO/VREF7 (io), A10 IO/VREF6 (io), A11 IO/VREF6 (io), A16 GND (power), B2 GND (power), B6 VCCIO7 (power), B7 VCC (power), B8 IO/VREF7 (io), B9 IO/VREF6 (io), B10 VCCPLL (power), B11 VCCIO6 (power), B15 GND (power), B16 TDO (out), C3 GND (power), C6 VCCIO7 (power), C7 VCCIO7 (power), C10 VCCIO6 (power), C11 VCCIO6 (power), C14 GND (power), C15 TDI (in), D4 GND (power), D6 IO/VREF7 (io), D11 IO/VREF6 (io), D13 GND (power), D14 TCLK (in), E12 TMS (in), F2 VCC (power), F3 VCCIO0 (power), F4 IO/VREF0 (io), F7 GCTL3 (in), F8 GCLK3 (in), F9 GCTL2 (in), F10 GCLK2 (in), F13 IO/VREF5 (io), F14 VCCIO5 (power), F15 VCCJTAG (power), G2 VCC (power), G3 VCCIO0 (power), G4 IO/VREF0 (io), G6 GCTL0 (in), G7 GND (power), G8 GND (power), G9 GND (power), G10 GND (power), G11 GCTL1 (in), G13 IO/VREF5 (io), G14 VCCIO5 (power), G15 VCC (power), H4 IO/VREF0 (io), H6 GCLK0 (in), H7 GND (power), H8 GND (power), H9 GND (power), H10 GND (power), H11 GCLK1 (in), H13 IO/VREF5 (io), J7 GND (power), J8 GND (power), J9 GND (power), J10 GND (power), K2 VCCPRG (power), K3 VCCIO1 (power), K4 IO/VREF1 (io), K7 GND (power), K8 GND (power), K9 GND (power), K10 GND (power), K13 IO/VREF4 (io), K14 VCCIO4 (power), K15 VCCPRG (power), L2 VCC (power), L3 VCCIO1 (power), L4 IO/VREF1 (io), L5 VCCCNFG (power), L6 Config_Done (out), L13 IO/VREF4 (io), L14 VCCIO4 (power), L15 VCC (power), M4 Data (in), M5 Reconfig (in), N1 IO/VREF1 (io), N4 GND (power), N5 MSEL (in), N6 IO/VREF2 (io), N7 IO/VREF2 (io), N10 IO/VREF3 (io), N11 IO/VREF3 (io), N13 GND (power), N16 IO/VREF4 (io), P3 GND (power), P4 ~{CCE} (out), P6 VCCIO2 (power), P7 VCCIO2 (power), P10 VCCIO3 (power), P11 VCCIO3 (power), P14 GND (power), R2 GND (power), R3 CCLK (out), R6 VCCCNFG (power), R7 VCCIO2 (power), R10 VCC (power), R11 VCCIO3 (power), R15 GND (power), T1 GND (power), T2 Reset (out), T6 IO/VREF2 (io), T7 IO/VREF2 (io), T10 IO/VREF3 (io), T11 IO/VREF3 (io), T16 GND (power)

## CY39100V256B-125BBC
designator U?
Delta39K ISR CPLD, 3.3V/2.5V, 100K Gates, 125 MHz, 256-Ball FBGA, Commercial Grade; Published: 6-Oct-2005; LatestRevisionDate: 13-Apr-2006; LatestRevisionNote: IPC-7351 Footprint Added.; DatasheetVersion: revI, Mar-2005; PackageVersion: revF, Oct-2003; PackageReference: BB256; Publisher: Altium Limited; PackageDescription: 256-Ball Fine Pitch Ball Grid Array 1 mm Pitch (37K & 39K CPLD Devices); Code_JEDEC: MO-192; ComponentLink1Description: Manufacturer Link; ComponentLink1URL: http://www.cypress.com/; ComponentLink2Description: Datasheet; ComponentLink2URL: http://www.cypress.com/portal/server.pt/gateway/PTARGS_0_601270_1522_209_0_43/http%3B/sjapp20.mis.cypress.com%3B7001/publishedcontent/publish/design_resources/datasheets/contents/cy39030v_5.pdf
footprint BB256 (BGA, 256-Leads, Body 17x17mm, Pitch 1mm)
3D model CY39100V256-BB256 (256-Ball Fine Pitch Ball Grid Array 1 mm Pitch (37K & 39K CPLD Devices))
part A pins: A2 IO7 (io), A3 IO7 (io), A4 IO7 (io), A5 IO7 (io), A8 IO6/Lock (io), A9 IO6 (io), A12 IO6 (io), A13 IO6 (io), A14 IO6 (io), A15 IO6 (io), B1 IO0 (io), B3 IO7 (io), B4 IO7 (io), B5 IO7 (io), B12 IO6 (io), B13 IO6 (io), B14 IO6 (io), C1 IO0 (io), C2 IO0 (io), C4 IO7 (io), C5 IO7 (io), C8 IO7 (io), C9 IO6 (io), C12 IO6 (io), C13 IO6 (io), C16 IO5 (io), D1 IO0 (io), D2 IO0 (io), D3 IO0 (io), D5 IO7 (io), D7 IO7 (io), D8 IO7 (io), D9 IO6 (io), D10 IO6 (io), D12 IO6 (io), D15 IO5 (io), D16 IO5 (io), E1 IO0 (io), E2 IO0 (io), E3 IO0 (io), E4 IO0 (io), E5 IO7 (io), E6 IO7 (io), E7 IO7 (io), E8 IO7 (io), E9 IO6 (io), E10 IO6 (io), E11 IO6 (io), E13 IO5 (io), E14 IO5 (io), E15 IO5 (io), E16 IO5 (io), F1 IO0 (io), F5 IO0 (io), F6 IO7 (io), F11 IO5 (io), F12 IO5 (io), F16 IO5 (io), G1 IO0 (io), G5 IO0 (io), G12 IO5 (io), G16 IO5 (io), H1 IO0 (io), H2 IO0 (io), H3 IO0 (io), H5 IO0 (io), H12 IO5 (io), H14 IO5 (io), H15 IO5 (io), H16 IO5 (io), J1 IO1 (io), J2 IO1 (io), J3 IO1 (io), J4 IO1 (io), J5 IO1 (io), J6 IO1 (io), J11 IO4 (io), J12 IO4 (io), J13 IO4 (io), J14 IO4 (io), J15 IO5 (io), J16 IO5 (io), K1 IO1 (io), K5 IO1 (io), K6 IO1 (io), K11 IO4 (io), K12 IO4 (io), K16 IO4 (io), L1 IO1 (io), L7 IO2 (io), L8 IO2 (io), L9 IO3 (io), L10 IO3 (io), L11 IO3 (io), L12 IO4 (io), L16 IO4 (io), M1 IO1 (io), M2 IO1 (io), M3 IO1 (io), M6 IO2 (io), M7 IO2 (io), M8 IO2 (io), M9 IO3 (io), M10 IO3 (io), M11 IO3 (io), M12 IO3 (io), M13 IO4 (io), M14 IO4 (io), M15 IO4 (io), M16 IO4 (io), N2 IO1 (io), N3 IO1 (io), N8 IO2 (io), N9 IO3 (io), N12 IO3 (io), N14 IO4 (io), N15 IO4 (io), P1 IO1 (io), P2 IO1 (io), P5 IO2 (io), P8 IO2 (io), P9 IO2 (io), P12 IO3 (io), P13 IO3 (io), P15 IO4 (io), P16 IO4 (io), R1 IO1 (io), R4 IO2 (io), R5 IO2 (io), R8 IO2 (io), R9 IO2 (io), R12 IO3 (io), R13 IO3 (io), R14 IO3 (io), R16 IO4 (io), T3 IO2 (io), T4 IO2 (io), T5 IO2 (io), T8 IO2 (io), T9 IO2 (io), T12 IO3 (io), T13 IO3 (io), T14 IO3 (io), T15 IO3 (io)
part B pins: A1 GND (power), A6 IO/VREF7 (io), A7 IO/VREF7 (io), A10 IO/VREF6 (io), A11 IO/VREF6 (io), A16 GND (power), B2 GND (power), B6 VCCIO7 (power), B7 VCC (power), B8 IO/VREF7 (io), B9 IO/VREF6 (io), B10 VCCPLL (power), B11 VCCIO6 (power), B15 GND (power), B16 TDO (out), C3 GND (power), C6 VCCIO7 (power), C7 VCCIO7 (power), C10 VCCIO6 (power), C11 VCCIO6 (power), C14 GND (power), C15 TDI (in), D4 GND (power), D6 IO/VREF7 (io), D11 IO/VREF6 (io), D13 GND (power), D14 TCLK (in), E12 TMS (in), F2 VCC (power), F3 VCCIO0 (power), F4 IO/VREF0 (io), F7 GCTL3 (in), F8 GCLK3 (in), F9 GCTL2 (in), F10 GCLK2 (in), F13 IO/VREF5 (io), F14 VCCIO5 (power), F15 VCCJTAG (power), G2 VCC (power), G3 VCCIO0 (power), G4 IO/VREF0 (io), G6 GCTL0 (in), G7 GND (power), G8 GND (power), G9 GND (power), G10 GND (power), G11 GCTL1 (in), G13 IO/VREF5 (io), G14 VCCIO5 (power), G15 VCC (power), H4 IO/VREF0 (io), H6 GCLK0 (in), H7 GND (power), H8 GND (power), H9 GND (power), H10 GND (power), H11 GCLK1 (in), H13 IO/VREF5 (io), J7 GND (power), J8 GND (power), J9 GND (power), J10 GND (power), K2 VCCPRG (power), K3 VCCIO1 (power), K4 IO/VREF1 (io), K7 GND (power), K8 GND (power), K9 GND (power), K10 GND (power), K13 IO/VREF4 (io), K14 VCCIO4 (power), K15 VCCPRG (power), L2 VCC (power), L3 VCCIO1 (power), L4 IO/VREF1 (io), L5 VCCCNFG (power), L6 Config_Done (out), L13 IO/VREF4 (io), L14 VCCIO4 (power), L15 VCC (power), M4 Data (in), M5 Reconfig (in), N1 IO/VREF1 (io), N4 GND (power), N5 MSEL (in), N6 IO/VREF2 (io), N7 IO/VREF2 (io), N10 IO/VREF3 (io), N11 IO/VREF3 (io), N13 GND (power), N16 IO/VREF4 (io), P3 GND (power), P4 ~{CCE} (out), P6 VCCIO2 (power), P7 VCCIO2 (power), P10 VCCIO3 (power), P11 VCCIO3 (power), P14 GND (power), R2 GND (power), R3 CCLK (out), R6 VCCCNFG (power), R7 VCCIO2 (power), R10 VCC (power), R11 VCCIO3 (power), R15 GND (power), T1 GND (power), T2 Reset (out), T6 IO/VREF2 (io), T7 IO/VREF2 (io), T10 IO/VREF3 (io), T11 IO/VREF3 (io), T16 GND (power)

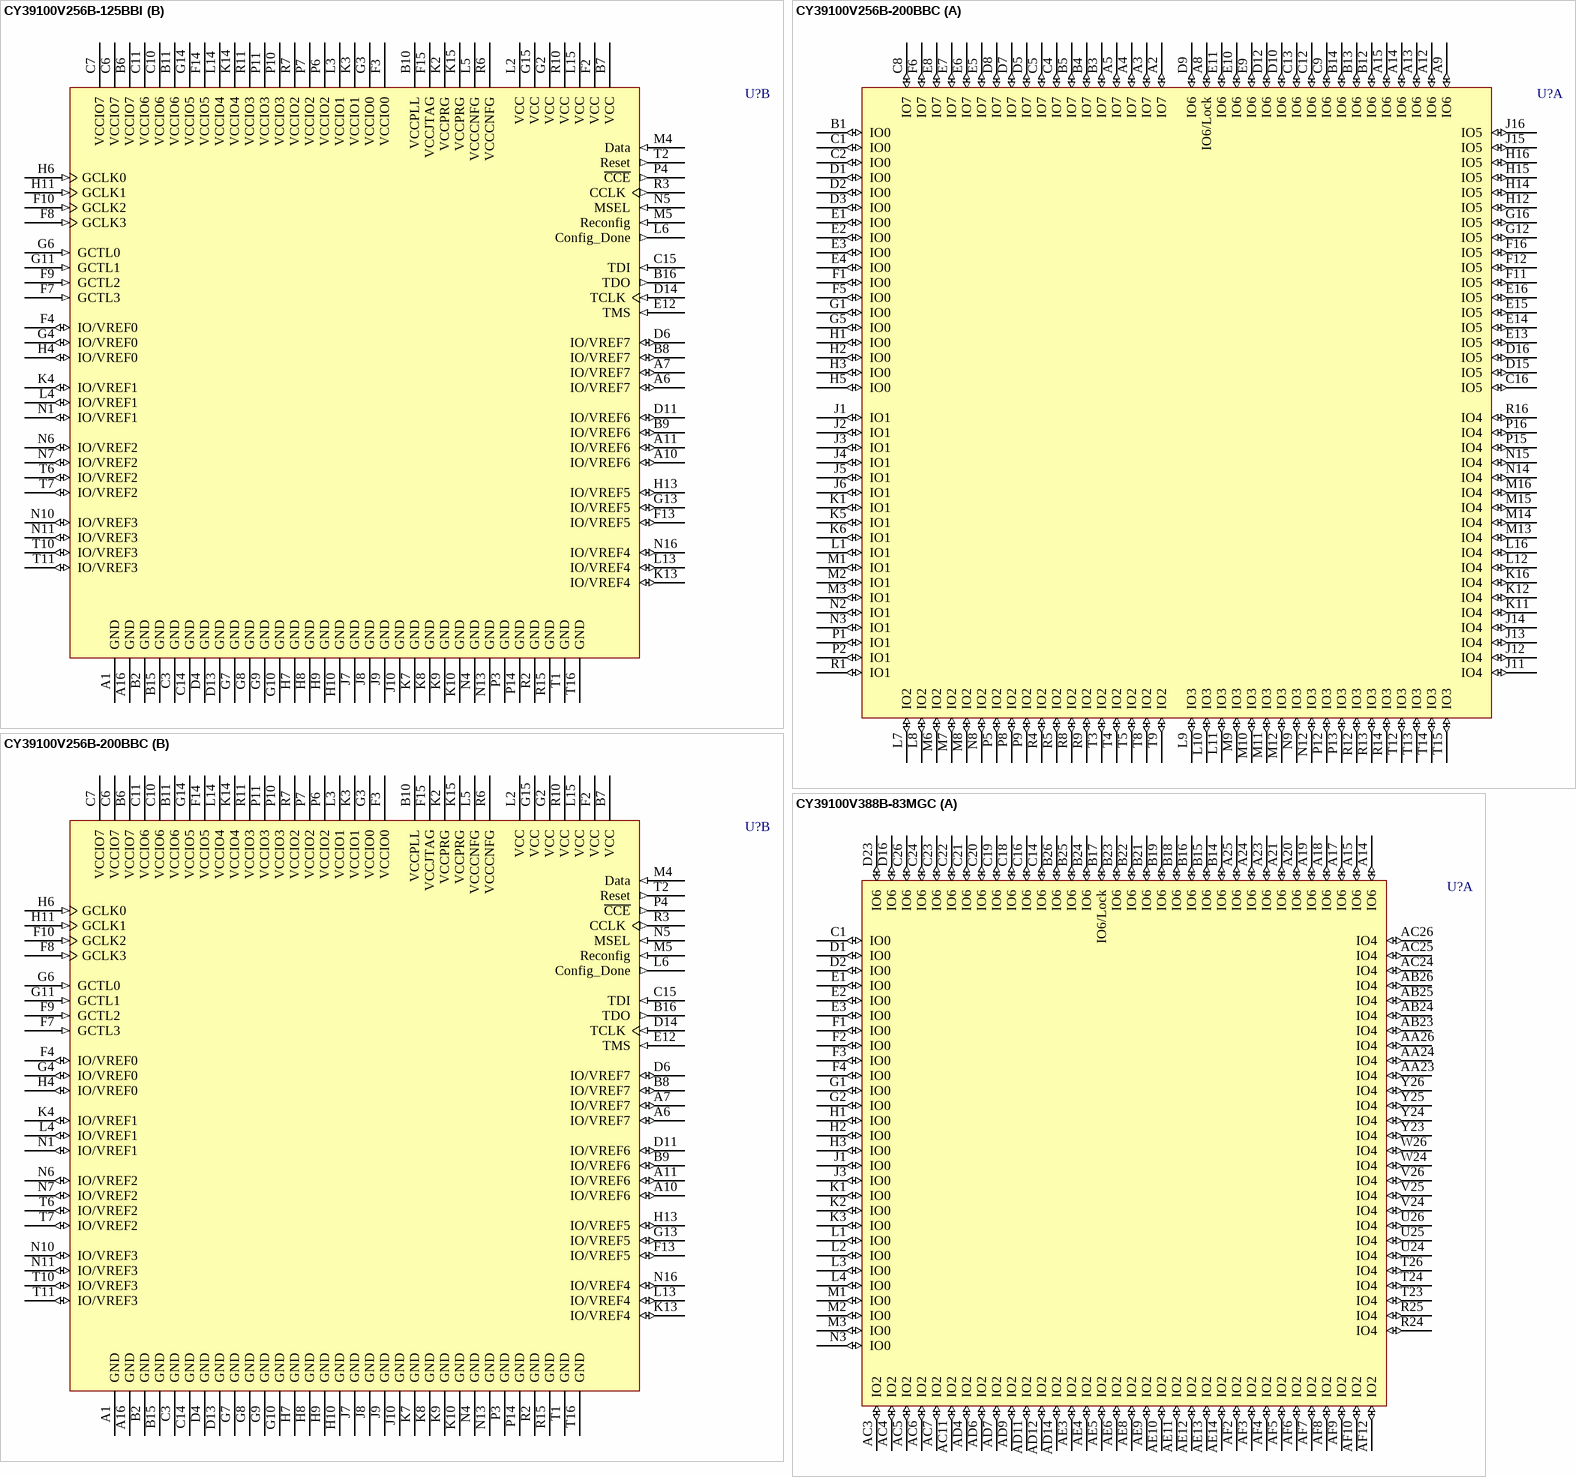
[diagram p31: symbols CY39100V256B-125BBI to CY39100V388B-83MGC]

## CY39100V256B-125BBI
designator U?
Delta39K ISR CPLD, 3.3V/2.5V, 100K Gates, 125 MHz, 256-Ball FBGA, Industrial Grade; ComponentAvailability: Obsolete; Published: 11-Dec-2002; LatestRevisionDate: 13-Apr-2006; LatestRevisionNote: IPC-7351 Footprint Added.; DatasheetVersion: revI, Mar-2005; PackageVersion: revF, Oct-2003; PackageReference: BB256; Publisher: Altium Limited; PackageDescription: 256-Ball Fine Pitch Ball Grid Array 1 mm Pitch (37K & 39K CPLD Devices); Code_JEDEC: MO-192; ComponentLink1Description: Manufacturer Link; ComponentLink1URL: http://www.cypress.com/; ComponentLink2Description: Datasheet; ComponentLink2URL: http://www.cypress.com/portal/server.pt/gateway/PTARGS_0_601270_1522_209_0_43/http%3B/sjapp20.mis.cypress.com%3B7001/publishedcontent/publish/design_resources/datasheets/contents/cy39030v_5.pdf
footprint BB256 (BGA, 256-Leads, Body 17x17mm, Pitch 1mm)
3D model CY39100V256-BB256 (256-Ball Fine Pitch Ball Grid Array 1 mm Pitch (37K & 39K CPLD Devices))
part A pins: A2 IO7 (io), A3 IO7 (io), A4 IO7 (io), A5 IO7 (io), A8 IO6/Lock (io), A9 IO6 (io), A12 IO6 (io), A13 IO6 (io), A14 IO6 (io), A15 IO6 (io), B1 IO0 (io), B3 IO7 (io), B4 IO7 (io), B5 IO7 (io), B12 IO6 (io), B13 IO6 (io), B14 IO6 (io), C1 IO0 (io), C2 IO0 (io), C4 IO7 (io), C5 IO7 (io), C8 IO7 (io), C9 IO6 (io), C12 IO6 (io), C13 IO6 (io), C16 IO5 (io), D1 IO0 (io), D2 IO0 (io), D3 IO0 (io), D5 IO7 (io), D7 IO7 (io), D8 IO7 (io), D9 IO6 (io), D10 IO6 (io), D12 IO6 (io), D15 IO5 (io), D16 IO5 (io), E1 IO0 (io), E2 IO0 (io), E3 IO0 (io), E4 IO0 (io), E5 IO7 (io), E6 IO7 (io), E7 IO7 (io), E8 IO7 (io), E9 IO6 (io), E10 IO6 (io), E11 IO6 (io), E13 IO5 (io), E14 IO5 (io), E15 IO5 (io), E16 IO5 (io), F1 IO0 (io), F5 IO0 (io), F6 IO7 (io), F11 IO5 (io), F12 IO5 (io), F16 IO5 (io), G1 IO0 (io), G5 IO0 (io), G12 IO5 (io), G16 IO5 (io), H1 IO0 (io), H2 IO0 (io), H3 IO0 (io), H5 IO0 (io), H12 IO5 (io), H14 IO5 (io), H15 IO5 (io), H16 IO5 (io), J1 IO1 (io), J2 IO1 (io), J3 IO1 (io), J4 IO1 (io), J5 IO1 (io), J6 IO1 (io), J11 IO4 (io), J12 IO4 (io), J13 IO4 (io), J14 IO4 (io), J15 IO5 (io), J16 IO5 (io), K1 IO1 (io), K5 IO1 (io), K6 IO1 (io), K11 IO4 (io), K12 IO4 (io), K16 IO4 (io), L1 IO1 (io), L7 IO2 (io), L8 IO2 (io), L9 IO3 (io), L10 IO3 (io), L11 IO3 (io), L12 IO4 (io), L16 IO4 (io), M1 IO1 (io), M2 IO1 (io), M3 IO1 (io), M6 IO2 (io), M7 IO2 (io), M8 IO2 (io), M9 IO3 (io), M10 IO3 (io), M11 IO3 (io), M12 IO3 (io), M13 IO4 (io), M14 IO4 (io), M15 IO4 (io), M16 IO4 (io), N2 IO1 (io), N3 IO1 (io), N8 IO2 (io), N9 IO3 (io), N12 IO3 (io), N14 IO4 (io), N15 IO4 (io), P1 IO1 (io), P2 IO1 (io), P5 IO2 (io), P8 IO2 (io), P9 IO2 (io), P12 IO3 (io), P13 IO3 (io), P15 IO4 (io), P16 IO4 (io), R1 IO1 (io), R4 IO2 (io), R5 IO2 (io), R8 IO2 (io), R9 IO2 (io), R12 IO3 (io), R13 IO3 (io), R14 IO3 (io), R16 IO4 (io), T3 IO2 (io), T4 IO2 (io), T5 IO2 (io), T8 IO2 (io), T9 IO2 (io), T12 IO3 (io), T13 IO3 (io), T14 IO3 (io), T15 IO3 (io)
part B pins: A1 GND (power), A6 IO/VREF7 (io), A7 IO/VREF7 (io), A10 IO/VREF6 (io), A11 IO/VREF6 (io), A16 GND (power), B2 GND (power), B6 VCCIO7 (power), B7 VCC (power), B8 IO/VREF7 (io), B9 IO/VREF6 (io), B10 VCCPLL (power), B11 VCCIO6 (power), B15 GND (power), B16 TDO (out), C3 GND (power), C6 VCCIO7 (power), C7 VCCIO7 (power), C10 VCCIO6 (power), C11 VCCIO6 (power), C14 GND (power), C15 TDI (in), D4 GND (power), D6 IO/VREF7 (io), D11 IO/VREF6 (io), D13 GND (power), D14 TCLK (in), E12 TMS (in), F2 VCC (power), F3 VCCIO0 (power), F4 IO/VREF0 (io), F7 GCTL3 (in), F8 GCLK3 (in), F9 GCTL2 (in), F10 GCLK2 (in), F13 IO/VREF5 (io), F14 VCCIO5 (power), F15 VCCJTAG (power), G2 VCC (power), G3 VCCIO0 (power), G4 IO/VREF0 (io), G6 GCTL0 (in), G7 GND (power), G8 GND (power), G9 GND (power), G10 GND (power), G11 GCTL1 (in), G13 IO/VREF5 (io), G14 VCCIO5 (power), G15 VCC (power), H4 IO/VREF0 (io), H6 GCLK0 (in), H7 GND (power), H8 GND (power), H9 GND (power), H10 GND (power), H11 GCLK1 (in), H13 IO/VREF5 (io), J7 GND (power), J8 GND (power), J9 GND (power), J10 GND (power), K2 VCCPRG (power), K3 VCCIO1 (power), K4 IO/VREF1 (io), K7 GND (power), K8 GND (power), K9 GND (power), K10 GND (power), K13 IO/VREF4 (io), K14 VCCIO4 (power), K15 VCCPRG (power), L2 VCC (power), L3 VCCIO1 (power), L4 IO/VREF1 (io), L5 VCCCNFG (power), L6 Config_Done (out), L13 IO/VREF4 (io), L14 VCCIO4 (power), L15 VCC (power), M4 Data (in), M5 Reconfig (in), N1 IO/VREF1 (io), N4 GND (power), N5 MSEL (in), N6 IO/VREF2 (io), N7 IO/VREF2 (io), N10 IO/VREF3 (io), N11 IO/VREF3 (io), N13 GND (power), N16 IO/VREF4 (io), P3 GND (power), P4 ~{CCE} (out), P6 VCCIO2 (power), P7 VCCIO2 (power), P10 VCCIO3 (power), P11 VCCIO3 (power), P14 GND (power), R2 GND (power), R3 CCLK (out), R6 VCCCNFG (power), R7 VCCIO2 (power), R10 VCC (power), R11 VCCIO3 (power), R15 GND (power), T1 GND (power), T2 Reset (out), T6 IO/VREF2 (io), T7 IO/VREF2 (io), T10 IO/VREF3 (io), T11 IO/VREF3 (io), T16 GND (power)